# Altium footprint library 691363310002.PcbLib: 1 footprints
Each footprint in its own frame and in the unit in brackets; x right, y up, seen from the top. Pads: shape width x height; smd on the part's side, far side on the other; paste and mask are expansions set on the pad; w line width, h text height; cw(c..) or ccw(c..) is an arc to the next point about the centre after c.

## 691363310002 [mm]
3D body "691366310002 (rev1).stp": height 6.38, standoff -12.72, extent -3.81,-5.25 3.81,5.15